# Altium schematic symbol library CAP.SchLib: 163 symbols (part 1 of 2)
Pins are listed as number, name and electrical type; pins without a type are passive.

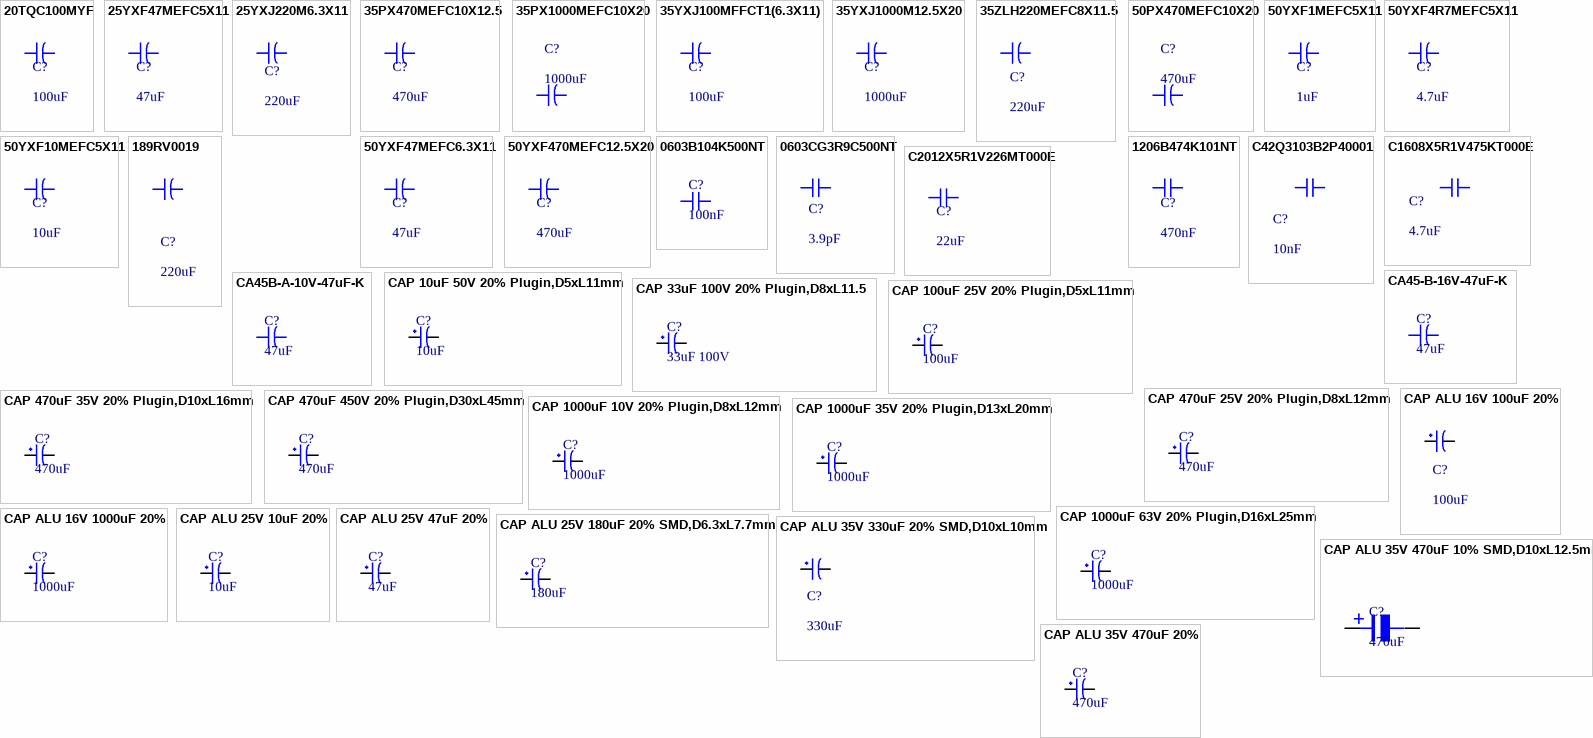
[diagram p0: symbols 20TQC100MYF to CAP ALU 35V 470uF 20%]

## 20TQC100MYF
designator C?, comment 100uF
100uF ±20% 20V Tantalum Capacitors 55mΩ@100kHz; Manufacturer: PANASONIC; Mfr.Part #: 20TQC100MYF; Package: SMD; LCSC Part #: C139578; DigiKey Part Number: P16503TR-ND; ComponentLink1Description: Link; ComponentLink1URL: https://www.lcsc.com/product-detail/C139578.html; ComponentLink2Description: Link 1; ComponentLink2URL: https://www.digikey.com/en/products/detail/panasonic-electronic-components/20TQC100MYF/4204835?s=N4IgTCBcDa4AwBUCKBhAjHOBZAmgMRAF0BfIA
footprint CAP_20TQC100MYF
pins: 1, 2

## 25YXF47MEFC5X11
designator C?, comment 47uF
47uF 25V Aluminum Electrolytic Capacitors Through Hole,D5xL11mm 5000hrs@105℃; Manufacturer: Rubycon; Mfr.Part #: 25YXF47MEFC5X11; Package: Through Hole,D5xL11mm; LCSC Part #: C88724; DigiKey Part Number: 1189-1858-ND; ComponentLink1Description: Link; ComponentLink1URL: https://www.lcsc.com/product-detail/C88724.html; ComponentLink2Description: Link 1; ComponentLink2URL: https://www.digikey.com/en/products/detail/rubycon/25YXF47MEFC5X11/3562864?s=N4IgTCBcDa4KwE0AaAxALAdgLIFEUGE4kBGYkAXQF8g
footprint PLUGIN,D5xL11mm
pins: 1, 2

## 25YXJ220M6.3X11
designator C?, comment 220uF
220uF 25V Aluminum Electrolytic Capacitors Through Hole,D6.3xL11mm 7000hrs@105℃; Manufacturer: Rubycon; Mfr.Part #: 25YXJ220M6.3X11; Package: Through Hole,D6.3xL11mm; LCSC Part #: C88729; DigiKey Part Number: 1189-2913-ND; ComponentLink1Description: Link; ComponentLink1URL: https://www.lcsc.com/product-detail/C88729.html; ComponentLink2Description: Link 1; ComponentLink2URL: https://www.digikey.com/en/products/detail/rubycon/25YXJ220M6-3X11/3563124?s=N4IgTCBcDa4KwE0AaApMYAMBZAbAOgGYkBGYkAXQF8g
footprint PLUGIN,D6.3xL12mm
pins: 1, 2

## 35PX470MEFC10X12.5
designator C?, comment 470uF
470uF 35V Aluminum Electrolytic Capacitors Through Hole,D10xL12.5mm 2000hrs@105℃; Manufacturer: Rubycon; Mfr.Part #: 35PX470MEFC10X12.5; Package: Through Hole,D10xL12.5mm; LCSC Part #: C127917; DigiKey Part Number: 1189-1280-ND; ComponentLink1Description: Link; ComponentLink1URL: https://www.lcsc.com/product-detail/C127917.html; ComponentLink2Description: Link 1; ComponentLink2URL: https://www.digikey.com/en/products/detail/rubycon/35PX470MEFC10X12-5/3134236?s=N4IgTCBcDaIMwFYAKANALAdgAwFkCiAYgMICMWKJYAdAiALoC%2BQA
footprint Plugin,D10xL12.5mm
pins: 1, 2

## 35PX1000MEFC10X20
designator C?, comment 1000uF
1000uF 35V Aluminum Electrolytic Capacitors Through Hole,D10xL20mm 2000hrs@105℃; Manufacturer: Rubycon; Mfr.Part #: 35PX1000MEFC10X20; So_Chan_Cam: 2; LCSC Part #: C136014; Package: Through Hole,D10xL20mm; DigiKey Part Number: 1189-1745-ND; ComponentLink1Description: Link; ComponentLink1URL: https://www.lcsc.com/product-detail/C136014.html?s_z=n_35PX1000MEFC10X20; ComponentLink2Description: Link 1; ComponentLink2URL: https://www.digikey.com/en/products/detail/rubycon/35PX1000MEFC10X20/3563769?s=N4IgTCBcDaIMwFYAKANAjABiwWQKIDEBhTFMDEAXQF8g
footprint Plugin,D10xL20mm
pins: 1, 2

## 35YXJ100MFFCT1(6.3X11)
designator C?, comment 100uF
100uF 35V Aluminum Electrolytic Capacitors Through Hole,D6.3xL11mm 7000hrs@105℃; Manufacturer: Rubycon; Mfr.Part #: 35YXJ100MFFCT1(6.3X11); Package: Through Hole,D6.3xL11mm; LCSC Part #: C3035369; DigiKey Part Number: NO; ComponentLink1Description: Link; ComponentLink1URL: https://www.lcsc.com/product-detail/C3035369.html?spm=wm.fly.bg.25.xh&lcsc_vid=FAdbA1BQFQNeV1UEFlgLA1FWRVFXUVBeEwJXVAFQRVUxVlNRQ1NbVF1fQ1ReUzsOAxUeFF5JWBYZEEoKFBINSQcJGk4dAgUUFAk%3D; ComponentLink2Description: Link 1
footprint PLUGIN,D6.3xL11mm
footprint PLUGIN,D6.3xL11mm-SIDE
pins: 1, 2

## 35YXJ1000M12.5X20
designator C?, comment 1000uF
1000uF 35V Aluminum Electrolytic Capacitors Through Hole,D12.5xL20mm 10000hrs@105℃; Manufacturer: Rubycon; Mfr.Part #: 35YXJ1000M12.5X20; Package: Through Hole,D12.5xL20mm; LCSC Part #: C88743; DigiKey Part Number: 1189-1295-ND; ComponentLink1Description: Link; ComponentLink1URL: https://www.lcsc.com/product-detail/C88743.html?s_z=n_35YXJ1000M12.5X20; ComponentLink2Description: Link 1; ComponentLink2URL: https://www.digikey.com/en/products/detail/rubycon/35YXJ1000M12-5X20/3134251?s=N4IgTCBcDaIMwFYCaANAUgRgAw4LIbADoEUwsQBdAXyA
footprint Plugin,D12.5xL20mm
pins: 1, 2

## 35ZLH220MEFC8X11.5
designator C?, comment 220uF
220uF 35V Aluminum Electrolytic Capacitors Through Hole,D8xL11.5mm 8000hrs@105℃; Manufacturer: Rubycon; Mfr.Part #: 35ZLH220MEFC8X11.5; LCSC Part #: C107639; Package: Through Hole,D8xL11.5mm; DigiKey Part Number: 1189-1863-ND; ComponentLink1Description: Link; ComponentLink1URL: https://www.lcsc.com/product-detail/C107639.html?s_z=n_35ZLH220MEFC8X11.5; ComponentLink2Description: Link 1; ComponentLink2URL: https://www.digikey.com/en/products/detail/rubycon/35ZLH220MEFC8X11-5/3563385?s=N4IgTCBcDaIMwFYBaAZAEmMAGAsgUQDEBhADgA0BGCgOgRAF0BfIA
footprint Plugin,D8xL11.5mm
pins: 1, 2

## 50PX470MEFC10X20
designator C?, comment 470uF
470uF 50V Aluminum Electrolytic Capacitors Through Hole,D10xL20mm 2000hrs@105℃; Manufacturer: Rubycon; Mfr.Part #: 50PX470MEFC10X20; LCSC Part #: C88733; Package: Through Hole,D10xL20mm; DigiKey Part Number: 1189-4213-ND; ComponentLink1Description: Link; ComponentLink1URL: https://www.lcsc.com/product-detail/C88733.html; ComponentLink2Description: Link 1; ComponentLink2URL: https://www.digikey.com/en/products/detail/rubycon/50PX470MEFC10X20/3563766?s=N4IgTCBcDaIKwAYAKANALAdgQWQKIDEBhARgRTARAF0BfIA
footprint Plugin,D10xL20mm
pins: 1, 2

## 50YXF1MEFC5X11
designator C?, comment 1uF
1uF 50V Aluminum Electrolytic Capacitors Through Hole,D5xL11mm; Manufacturer: Rubycon; Mfr.Part #: 50YXF1MEFC5X11; Package: Through Hole,D5xL11mm; LCSC Part #: C2927584; DigiKey Part Number: 1189-1878-ND; ComponentLink1Description: Link; ComponentLink1URL: https://www.lcsc.com/product-detail/C2927584.html; ComponentLink2Description: Link 1; ComponentLink2URL: https://www.digikey.com/en/products/detail/rubycon/50YXF1MEFC5X11/3562875?s=N4IgTCBcDaIKwAYCaANAYgRgLIFE0GE4UMMQBdAXyA
footprint PLUGIN,D5xL11mm
pins: 1, 2

## 50YXF4R7MEFC5X11
designator C?, comment 4.7uF
4.7uF 50V Aluminum Electrolytic Capacitors Through Hole,D5xL11mm 5000hrs@105℃; Manufacturer: Rubycon; Mfr.Part #: 50YXF4R7MEFC5X11; Package: Through Hole,D5xL11mm; LCSC Part #: C88759; DigiKey Part Number: 1189-1862-ND; ComponentLink1Description: Link; ComponentLink1URL: https://www.lcsc.com/product-detail/C88759.html; ComponentLink2Description: Link 1; ComponentLink2URL: https://www.digikey.com/en/products/detail/rubycon/50YXF4-7MEFC5X11/3562866?s=N4IgTCBcDaIKwAYCaANAYgFgEoHYCyAomgMJwoCM5IAugL5A
footprint PLUGIN,D5xL11mm
pins: 1, 2

## 50YXF10MEFC5X11
designator C?, comment 10uF
10uF 50V Aluminum Electrolytic Capacitors Through Hole,D5xL11mm 5000hrs@105℃; Manufacturer: Rubycon; Mfr.Part #: 50YXF10MEFC5X11; Package: Through Hole,D5xL11mm; LCSC Part #: C88726; DigiKey Part Number: 1189-1852-ND; ComponentLink1Description: Link; ComponentLink1URL: https://www.lcsc.com/product-detail/C88726.html; ComponentLink2Description: Link 1; ComponentLink2URL: http://digikey.com/en/products/detail/rubycon/50YXF10MEFC5X11/3562878?s=N4IgTCBcDaIKwAYCaANAYgRgQWQKJoGE4UMMQBdAXyA
footprint PLUGIN,D5xL11mm
pins: 1, 2

## 50YXF47MEFC6.3X11
designator C?, comment 47uF
47uF 50V Aluminum Electrolytic Capacitors Through Hole,D6.3xL11mm 5000hrs@105℃; Manufacturer: Rubycon; Mfr.Part #: 50YXF47MEFC6.3X11; Package: Through Hole,D6.3xL11mm; LCSC Part #: C107641; DigiKey Part Number: 1189-1854-ND; ComponentLink1Description: Link; ComponentLink1URL: https://www.lcsc.com/product-detail/C107641.html; ComponentLink2Description: Link 1; ComponentLink2URL: https://www.digikey.com/en/products/detail/rubycon/50YXF47MEFC6-3X11/3563091?s=N4IgTCBcDaIKwAYCaANAYgFgOwFkCiaAwgGwB0AzCgIxUgC6AvkA
footprint PLUGIN,D6.3xL11mm-SIDE
footprint PLUGIN,D6.3xL11mm-SIDE
pins: 1, 2

## 50YXF470MEFC12.5X20
designator C?, comment 470uF
470uF 50V Aluminum Electrolytic Capacitors Through Hole,D12.5xL20mm 10000hrs@105℃; Manufacturer: Rubycon; Mfr.Part #: 50YXF470MEFC12.5X20; Package: Through Hole,D12.5xL20mm; LCSC Part #: C88856; DigiKey Part Number: 1189-50YXF470MEFC12.5X20-ND; ComponentLink1Description: Link; ComponentLink1URL: https://www.lcsc.com/product-detail/C88856.html; ComponentLink2Description: Link 1; ComponentLink2URL: https://www.digikey.com/en/products/detail/rubycon/50YXF470MEFC12-5X20/3564022?s=N4IgTCBcDaIKwAYCaANAYgFgOwILIFE0BhARjADo4UwEQBdAXyA
footprint Plugin,D12.5xL20mm
pins: 1, 2

## 189RV0019
designator C?, comment 220uF
220uF 35V 600mA@100KHz 160mΩ@100KHz ±20% SMD,D6.3xL7.7mm Aluminum Electrolytic Capacitors - SMD ROHS; Manufacturer: KNSCHA; Mfr.Part #: 189RV0019; Package: SMD,D6.3xL7.7mm; LCSC Part #: C7471881
footprint SMD,D6.3xL7.7mm
pins: 1, 2

## 0603B104K500NT
designator C?, comment 100nF
100nF ±10% 50V Ceramic Capacitor X7R 0603; Manufacturer: FH; Mfr.Part #: 0603B104K500NT; Package: 0603; LCSC Part #: C30926; DigiKey Part Number: NO; ComponentLink1Description: Link; ComponentLink1URL: https://www.lcsc.com/product-detail/C30926.html?s_z=n_0603B114K500NT; ComponentLink2Description: Link 1
footprint CAP-0603
pins: 1, 2

## 0603CG3R9C500NT
designator C?, comment 3.9pF
3.9pF 50V Ceramic Capacitor C0G 0603; Manufacturer: FH; Mfr.Part #: 0603CG3R9C500NT; Package: 0603; LCSC Part #: C1662; DigiKey Part Number: NO; ComponentLink1Description: Link; ComponentLink1URL: https://www.lcsc.com/product-detail/C1662.html?spm=wm.fly.bg.1.xh&lcsc_vid=QwdcUVxUFAdbVwUFRQBWBVECTlNYX1QAQFddU1EFQ1kxVlNRQ1NeVF1TQVhaVTsOAxUeFF5JWBYZEEoKFBINSQcJGk4dAgUUFAk%3D; ComponentLink2Description: Link 1
footprint CAP-0603
pins: 1, 2

## 1206B474K101NT
designator C?, comment 470nF
470nF ±10% 100V Ceramic Capacitor X7R 1206; Manufacturer: FH; Mfr.Part #: 1206B474K101NT; Package: 1206; LCSC Part #: C507059; DigiKey Part Number: NO; ComponentLink1Description: Link; ComponentLink1URL: https://www.lcsc.com/product-detail/C507059.html; ComponentLink2Description: Link 1
footprint CAP-1206 - 1
pins: 1, 2

## C42Q3103B2P40001
designator C?, comment 10nF
10nF ±10% 275V 310V Safety Capacitor X2 Through Hole,P=10mm; Manufacturer: WALSON; Mfr.Part #: CC0603JRX7R9BB103; Package: Through Hole,P=10mm; LCSC Part #: C46638843; DigiKey Part Number: NO; ComponentLink1Description: Link; ComponentLink1URL: https://www.lcsc.com/product-detail/C46638843.html; ComponentLink2Description: Link 1
footprint Through Hole, P=10mm, L=12mm, W=6mm,  H=12mm
pins: 1, 2

## C1608X5R1V475KT000E
designator C?, comment 4.7uF
4.7uF ±10% 35V Ceramic Capacitor X5R 0603; Manufacturer: TDK; Mfr.Part #: C1608X5R1V475KT000E; Package: 0603; LCSC Part #: C329940; DigiKey Part Number: 445-9064-2-ND; ComponentLink1Description: Link; ComponentLink1URL: https://www.lcsc.com/product-detail/C329940.html?s_z=n_c329940; ComponentLink2Description: Link 1; ComponentLink2URL: https://www.digikey.com/en/products/detail/tdk-corporation/C1608X5R1V475K080AC/3648577?s=N4IgTCBcDaIMIEYBsAGAHADQKwCUEDUAWAdiwGkAVFagURAF0BfIA
footprint CAP-0603
pins: 1, 2

## C2012X5R1V226MT000E
designator C?, comment 22uF
22uF ±20% 35V Ceramic Capacitor X5R 0805; Manufacturer: TDK; Mfr.Part #: C2012X5R1V226MT000E; Package: 0805; LCSC Part #: C338080; DigiKey Part Number: 445-14428-2-ND; ComponentLink1Description: Link; ComponentLink1URL: https://www.lcsc.com/product-detail/C338080.html?spm=wm.fly.bg.0.xh&lcsc_vid=FAdbA1BQFQNeV1UEFlgLA1FWRVFXUVBeEwJXVAFQRVUxVlNRQ1NbU11QRVRcVTsOAxUeFF5JWBYZEEoKFBINSQcJGk4dAgUUFAk%3D; ComponentLink2Description: Link 1; ComponentLink2URL: https://www.digikey.com/en/products/detail/tdk/C2012X5R1V226M125AC/3951664?s=N4IgTCBcDaIMJgAwEYwA0CsAlZA1MYAbALIAqiFAoiALoC%2BQA
footprint CAP-0805
footprint CAP-0805-1
pins: 1, 2

## CA45-B-16V-47uF-K
designator C?, comment 47uF
47uF 16V 3Ω@100kHz ±10% CASE-B-3528-19(mm) Tantalum Capacitors ROHS; Manufacturer: CEC(Zhenhua XinYun); Mfr.Part #: CA45-B-16V-47uF-K; Package: CASE-B-3528-19(mm); LCSC Part #: C136751
footprint CASE-B-3528-19(mm)
pins: 1, 2

## CA45B-A-10V-47uF-K
designator C?, comment 47uF
47uF 10V ±10% CASE-A-3216-16(mm) Tantalum Capacitors ROHS; Manufacturer: CEC(Zhenhua XinYun); Mfr.Part #: CA45B-A-10V-47uF-K; Package: CASE-A-3216-16(mm); LCSC Part #: C41415735; DigiKey Part Number: NO
footprint CASE-A-3216-18(mm)
pins: 1, 2

## CAP 10uF 50V 20% Plugin,D5xL11mm
designator C?, comment 10uF
10uF 50V ±20% Plugin,D5xL11mm Aluminum Electrolytic Capacitors - Leaded ROHS; Manufacturer: AISHI(Aihua Group); Mfr.Part #: ERS1HM100D11OT; Name: CAP 10uF 50V 20% Plugin,D5xL11mm; So_Chan_Cam: 2; So_Chan_Dan: 0; Package: Plugin,D5xL11mm
footprint PLUGIN,D5xL11mm
pins: 1, 2

## CAP 33uF 100V 20% Plugin,D8xL11.5
designator C?, comment 33uF 100V
33uF 100V ±20% 140mA@120Hz Plugin,D8xL11.5mm Aluminum Electrolytic Capacitors - Leaded ROHS; Manufacturer: Rubycon; Mfr.Part #: 100PX33MEFC8X11.5; Name: CAP 33uF 100V 20% Plugin,D8xL11.5; So_Chan_Dan: 0; So_Chan_Cam: 2; Package: Plugin,D8xL11.5mm
footprint Plugin,D8xL11.5mm
pins: 1, 2

## CAP 100uF 25V 20% Plugin,D5xL11mm
designator C?, comment 100uF
100uF 25V ±20% Plugin,D5xL11mm Aluminum Electrolytic Capacitors - Leaded ROHS; Manufacturer: Rubycon; Mfr.Part #: 25YXJ100MT15X11; Name: CAP 100uF 25V 20% Plugin,D5xL11mm; So_Chan_Cam: 2; So_Chan_Dan: 0; Package: Plugin,D5xL11mm
footprint PLUGIN,D5xL11mm
pins: 1, 2

## CAP 470uF 25V 20% Plugin,D8xL12mm
designator C?, comment 470uF
470uF 25V ±20% Plugin,D8xL12mm Aluminum Electrolytic Capacitors - Leaded ROHS; Manufacturer: CX(Dongguan Chengxing Elec); Mfr.Part #: KM477M025F12RR0VH2FP0; Name: CAP 470uF 25V 20% Plugin,D8xL12mm; So_Chan_Dan: 0; So_Chan_Cam: 2; Package: Plugin,D8xL12mm
footprint Plugin,D8xL12mm
pins: 1, 2

## CAP 470uF 35V 20% Plugin,D10xL16mm
designator C?, comment 470uF
470uF 35V ±20% Plugin,D10xL16mm Aluminum Electrolytic Capacitors - Leaded ROHS; Manufacturer: Rubycon; Mfr.Part #: 35YXJ470M10x16; Name: CAP 470uF 35V 20% Plugin,D10xL16mm; So_Chan_Dan: 0; So_Chan_Cam: 2; Package: Plugin,D10xL16mm
footprint Plugin,D10xL16mm
pins: 1, 2

## CAP 470uF 450V 20% Plugin,D30xL45mm
designator C?, comment 470uF
470uF 450V 2.05A@120Hz ±20% 10mm Plugin,D30xL45mm Horn-Type Electrolytic Capacitors ROHS; Manufacturer: Rubycon; Mfr.Part #: 450MXH470MEFCSN30X45; Name: CAP 470uF 450V 20% Plugin,D30xL45mm; So_Chan_Dan: 0; So_Chan_Cam: 2; Package: Plugin,D30xL45mm
footprint Plugin,D30xL45mm
pins: 1, 2

## CAP 1000uF 10V 20% Plugin,D8xL12mm
designator C?, comment 1000uF
1000uF 10V ±20% 600mA@10kHz Plugin,D8xL12mm Aluminum Electrolytic Capacitors - Leaded ROHS; Manufacturer: Rubycon; Mfr.Part #: 10PX1000MEFC8X11.5; Name: CAP 1000uF 10V 20% Plugin,D8xL12mm; So_Chan_Dan: 0; So_Chan_Cam: 2; Package: Plugin,D8xL12mm
footprint Plugin,D8xL12mm
footprint Plugin,D8xL12mm-SIDE
pins: 1, 2

## CAP 1000uF 35V 20% Plugin,D13xL20mm
designator C?, comment 1000uF
1000uF 35V ±20% Plugin,D13xL20mm Aluminum Electrolytic Capacitors - Leaded ROHS; Manufacturer: CX(Dongguan Chengxing Elec); Mfr.Part #: KM108M035J20RR0VH2FP0; Name: CAP 1000uF 35V 20% Plugin,D13xL20mm; So_Chan_Dan: 0; So_Chan_Cam: 2; Package: Plugin,D13xL20mm
footprint Plugin,D13xL20mm
footprint Plugin,D13xL20mm-SIDE
pins: 1, 2

## CAP 1000uF 63V 20% Plugin,D16xL25mm
designator C?, comment 1000uF
1000uF 63V ±20% Plugin,D16xL25mm Aluminum Electrolytic Capacitors - Leaded ROHS; Manufacturer: Rubycon; Mfr.Part #: 63YXJ1000M16X25; Name: CAP 1000uF 63V 20% Plugin,D16xL25mm; So_Chan_Dan: 0; So_Chan_Cam: 2; Package: Plugin,D16xL25mm
footprint PLUGIN,D16xL25mm
pins: 1, 2

## CAP ALU 16V 100uF 20%
designator C?, comment 100uF
100uF 16V 125mA@120Hz ±20% SMD,D6.3xL6.1mm Aluminum Electrolytic Capacitors - SMD ROHS; Manufacturer: Rubycon; Mfr.Part #: 16TZV100M6.3X6.1; Name: CAP ALU 16V 100uF 20%; So_Chan_Dan: 2; So_Chan_Cam: 0; Package: SMD,D6.3xL6.1mm
footprint SMD,D6.3xL6.1mm
pins: 1, 2

## CAP ALU 16V 1000uF 20%
designator C?, comment 1000uF
1000uF 16V 300mA@120kHz ±20% SMD,D10xL10.5mm Aluminum Electrolytic Capacitors - SMD ROHS; Manufacturer: KNSCHA; Mfr.Part #: XT1000UF16V90RV0100; Name: CAP ALU 16V 1000uF 20%; So_Chan_Dan: 2; So_Chan_Cam: 0; Package: SMD,D10xL10.5mm
footprint SMD,D10xL10.5mm
pins: 1, 2

## CAP ALU 25V 10uF 20%
designator C?, comment 10uF
10uF 25V 25mA@120Hz ±20% SMD,D4xL5.5mm Aluminum Electrolytic Capacitors - SMD ROHS; Manufacturer: Rubycon; Mfr.Part #: 25SEV10M4X5.5; Name: CAP ALU 25V 10uF 20%; So_Chan_Dan: 2; So_Chan_Cam: 0; Package: SMD,D4xL5.5mm
footprint SMD,D4xL5.5mm
pins: 1, 2

## CAP ALU 25V 47uF 20%
designator C?, comment 47uF
47uF 25V 60mA@120Hz ±20% SMD,D6.3xL5.5mm Aluminum Electrolytic Capacitors - SMD ROHS; Manufacturer: Rubycon; Mfr.Part #: 25SEV47M6.3X5.5; Name: CAP ALU 25V 10uF 20%; So_Chan_Dan: 2; So_Chan_Cam: 0; Package: SMD,D6.3xL5.5mm
footprint SMD,D6.3xL5.5mm
pins: 1, 2

## CAP ALU 25V 180uF 20% SMD,D6.3xL7.7mm
designator C?, comment 180uF
180uF 25V 280mA@100kHz 340mΩ@100kHz ±20% SMD,D6.3xL7.7mm Aluminum Electrolytic Capacitors - SMD ROHS; Manufacturer: PANASONIC; Mfr.Part #: EEEFKE181XSP; Name: CAP ALU 25V 180uF 20% SMD,D6.3xL7.7mm; So_Chan_Dan: 0; So_Chan_Cam: 2; Package: SMD,D6.3xL7.7mm
footprint SMD,D6.3xL7.7mm
pins: 1, 2

## CAP ALU 35V 330uF 20% SMD,D10xL10mm
designator C?, comment 330uF
330uF 35V ±20% SMD,D10xL10mm Aluminum Electrolytic Capacitors - SMD ROHS; Manufacturer: Lelon; Mfr.Part #: VZH331M1VTR-1010; Name: CAP ALU 35V 330uF 20% SMD,D10xL10mm; So_Chan_Dan: 2; So_Chan_Cam: 0; Package: SMD,D10xL10mm; Tolerance: 20%
footprint SMD,D10xL10.5mm
pins: 1, 2

## CAP ALU 35V 470uF 10% SMD,D10xL12.5mm
designator C?, comment 470uF
470uF 35V ±10% SMD,D10xL12.5mm Aluminum Electrolytic Capacitors - SMD ROHS; Manufacturer: Lelon; Mfr.Part #: VEJ471K1VTR-1012; Name: CAP ALU 35V 470uF 10% SMD,D10xL12.5mm; So_Chan_Dan: 2; So_Chan_Cam: 0; Package: SMD,D10xL12.5mm; Tolerance: 10%
footprint SMD,D10xL12.5mm
pins: 1, 2
text: +

## CAP ALU 35V 470uF 20%
designator C?, comment 470uF
470uF 35V 310mA@120Hz ±20% SMD,D10xL10.5mm Aluminum Electrolytic Capacitors - SMD ROHS; Manufacturer: KNSCHA; Mfr.Part #: XT470UF35V90RV0080; Name: CAP ALU 35V 470uF 20%; So_Chan_Dan: 2; So_Chan_Cam: 0; Package: SMD,D10xL10.5mm
footprint SMD,D10xL10.5mm
pins: 1, 2

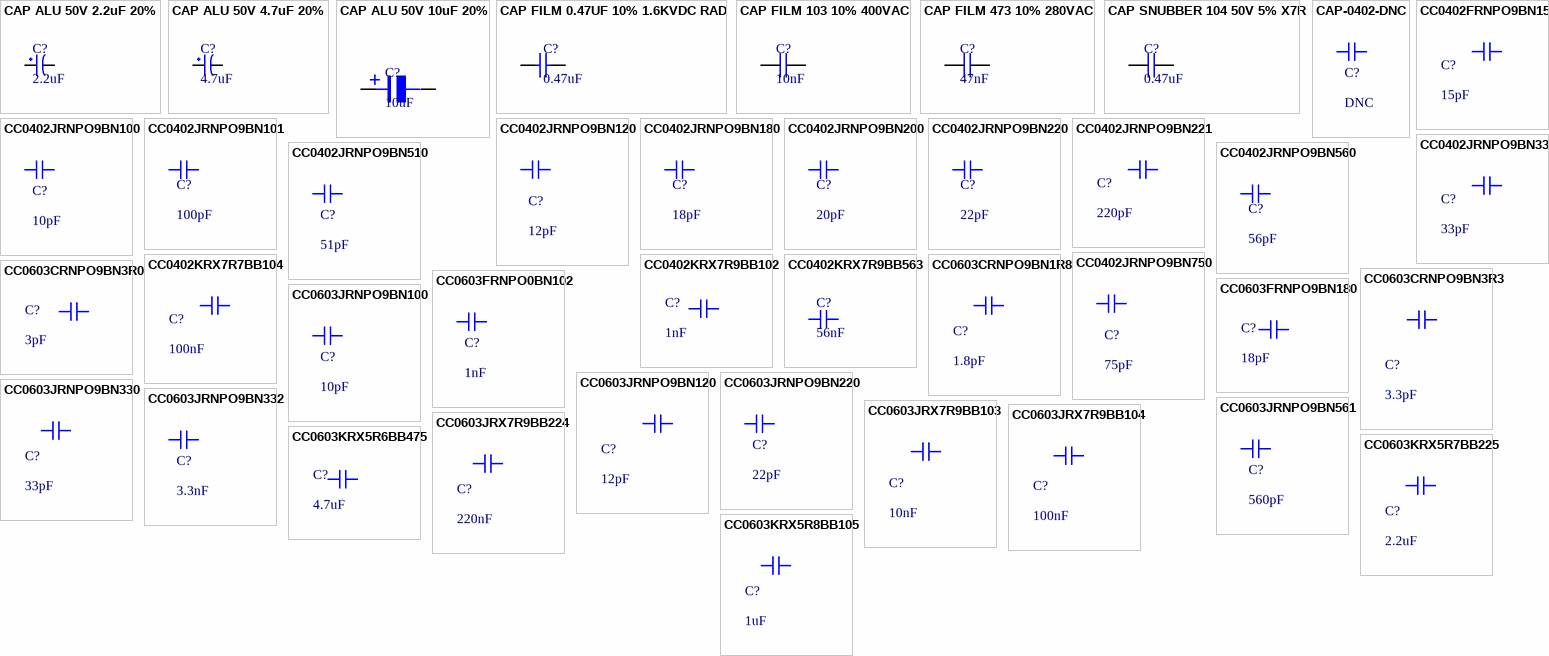
[diagram p1: symbols CAP ALU 50V 2.2uF 20% to CC0603KRX5R8BB105]

## CAP ALU 50V 2.2uF 20%
designator C?, comment 2.2uF
2.2uF 50V 11mA@120Hz ±20% SMD,D4xL6.1mm Aluminum Electrolytic Capacitors - SMD ROHS; Manufacturer: Rubycon; Mfr.Part #: 50SGV2R2M4X6.1; Name: CAP ALU 50V 2.2uF 20%; So_Chan_Dan: 2; So_Chan_Cam: 0; Package: SMD,D4xL6.1mm
footprint SMD,D4xL6.1mm
pins: 1, 2

## CAP ALU 50V 4.7uF 20%
designator C?, comment 4.7uF
4.7uF 50V 18mA@120Hz ±20% SMD,D4xL5.5mm Aluminum Electrolytic Capacitors - SMD ROHS; Manufacturer: Rubycon; Mfr.Part #: 50SEV4R7M4X5.5; Name: CAP ALU 50V 4.7uF 20%; So_Chan_Dan: 2; So_Chan_Cam: 0; Package: SMD,D4xL5.5mm
footprint SMD,D4xL5.5mm
footprint Plugin,D20xL35mm
pins: 1, 2

## CAP ALU 50V 10uF 20%
designator C?, comment 10uF
10uF 50V 30mA@120Hz ±20% SMD,D5xL5.5mm Aluminum Electrolytic Capacitors - SMD ROHS; Manufacturer: Rubycon; Mfr.Part #: 50SEV10M5X5.5; Name: CAP ALU 50V 10uF 20%; So_Chan_Dan: 2; So_Chan_Cam: 0; Package: SMD,D5xL5.5mm
footprint SMD,D5xL5.5mm
pins: 1, 2
text: +

## CAP FILM 0.47UF 10% 1.6KVDC RAD
designator C?, comment 0.47uF
0.47 µF Film Capacitor 650V 1600V (1.6kV) Polypropylene (PP), Metallized Radial; Manufacturer: WIMA; Mfr.Part #: MKP1T034707F00KSSD; Name: CAP FILM 0.47UF 10% 1.6KVDC RAD; So_Chan_Dan: 0; So_Chan_Cam: 2; Package: Plugin,L41.5xW19xH32mm
footprint Plugin,L41.5xW19xH32mm
pins: 1, 2

## CAP FILM 103 10% 400VAC
designator C?, comment 10nF
10000 pF Film Capacitor 400V 1000V (1kV) Polypropylene (PP), Metallized Radial; Manufacturer: WIMA; Mfr.Part #: MKP4O121003F00KSSD; So_Chan_Dan: 2; Name: CAP FILM 103 10% 400VAC; So_Chan_Cam: 0; Tolarance: 10%; Package: Plugin
footprint MKP4O121003F00
pins: 1, 2

## CAP FILM 473 10% 280VAC
designator C?, comment 47nF
0.047 µF Film Capacitor 280V 630V Polypropylene (PP), Metallized Radial; Manufacturer: WIMA; Mfr.Part #: MKP4J024702F00KSSD; So_Chan_Dan: 2; Name: CAP FILM 473 10% 280VAC; So_Chan_Cam: 0; Tolarance: 10%; Package: Plugin
footprint MKP4O121003F00
pins: 1, 2

## CAP SNUBBER 104 50V 5% X7R
designator C?, comment 0.47uF
50V 100nF X7R ±5% 0603 Multilayer Ceramic Capacitors MLCC - SMD/SMT ROHS; Manufacturer: YAGEO; Mfr.Part #: CC0603JRX7R9BB104; So_Chan_Dan: 2; Name: CAP 0603 104 50V 5% X7R; So_Chan_Cam: 0; Package: 0603; Volt Rated: 50V; Temperature Coefficient: X7R; Tolarance: 5%
footprint PLUGIN,W33xL56mm (FKP1 0.47uF 1.6kV)
pins: 1, 2

## CAP-0402-DNC
designator C?, comment DNC
Do not connect; Manufacturer: NO; Package: 0402; LCSC Part #: NO; Mfr.Part #: NO; DigiKey Part Number: NO
footprint CAP-0402
pins: 1, 2

## CC0402FRNPO9BN150
designator C?, comment 15pF
50V 15pF NP0 ±1% 0402 Ceramic Capacitors RoHS; Manufacturer: YAGEO; Mfr.Part #: CC0402FRNPO9BN150; Package: 0402; LCSC Part #: C326803; DigiKey Part Number: 311-1642-2-ND
footprint CAP-0402
pins: 1, 2

## CC0402JRNPO9BN100
designator C?, comment 10pF
10pF ±5% 50V Ceramic Capacitor NP0 0402; Manufacturer: YAGEO; Mfr.Part #: CC0402JRNPO9BN100; Package: 0402; LCSC Part #: C106199; DigiKey Part Number: 311-1014-2-ND; ComponentLink1Description: Link; ComponentLink1URL: https://www.lcsc.com/product-detail/C106199.html?s_z=n_10PF; ComponentLink2Description: Link 1; ComponentLink2URL: https://www.digikey.com/en/products/detail/yageo/CC0402JRNPO9BN100/302748?s=N4IgTCBcDaIMJwAwBZFgFICUByAFA8gJwBC2AjIoiALoC%2BQA
footprint CAP-0603
pins: 1, 2

## CC0402JRNPO9BN101
designator C?, comment 100pF
50V 100pF NP0 ±5% 0402 Ceramic Capacitors ROHS; Manufacturer: YAGEO; Mfr.Part #: CC0402JRNPO9BN101; Package: 0402; LCSC Part #: C106200
footprint CAP-0402
pins: 1, 2

## CC0402JRNPO9BN120
designator C?, comment 12pF
50V 12pF NP0 ±5% 0402 Multilayer Ceramic Capacitors MLCC - SMD/SMT ROHS; Manufacturer: YAGEO; Mfr.Part #: CC0402JRNPO9BN120; Package: 0402; LCSC Part #: C106201
footprint CAP-0402
pins: 1, 2

## CC0402JRNPO9BN180
designator C?, comment 18pF
50V 18pF NP0 ±5% 0402 Ceramic Capacitors RoHS; Manufacturer: YAGEO; Mfr.Part #: CC0402JRNPO9BN180; Package: 0402; LCSC Part #: C106202; DigiKey Part Number: 311-1415-2-ND
footprint CAP-0402
pins: 1, 2

## CC0402JRNPO9BN200
designator C?, comment 20pF
20pF ±5% 50V Ceramic Capacitor NP0 0402; Manufacturer: YAGEO; Mfr.Part #: CC0402JRNPO9BN200; Package: 0402; LCSC Part #: C107000; DigiKey Part Number: 311-1417-2-ND; ComponentLink1Description: Link; ComponentLink1URL: https://www.lcsc.com/product-detail/C107000.html?s_z=n_CC0402JRNPO9BN200; ComponentLink2Description: Link 1; ComponentLink2URL: https://www.digikey.com/en/products/detail/yageo/CC0402JRNPO9BN200/2833582?s=N4IgTCBcDaIMJwAwBZFgFICUByAFA8gJwBC2YiiIAugL5A
footprint CAP-0402
pins: 1, 2

## CC0402JRNPO9BN220
designator C?, comment 22pF
50V 22pF NP0 ±5% 0402 Ceramic Capacitors RoHS; Manufacturer: YAGEO; Mfr.Part #: CC0402JRNPO9BN220; Package: 0402; LCSC Part #: C106203; DigiKey Part Number: 311-1018-2-ND
footprint CAP-0402
pins: 1, 2

## CC0402JRNPO9BN221
designator C?, comment 220pF
220pF ±5% 50V Ceramic Capacitor NP0 0402; Manufacturer: YAGEO; Mfr.Part #: CC0402JRNPO9BN221; Package: 0402; LCSC Part #: C107001; DigiKey Part Number: 311-1416-2-ND; ComponentLink1Description: Link; ComponentLink1URL: https://www.lcsc.com/product-detail/C107001.html?s_z=n_220PF; ComponentLink2Description: Link 1; ComponentLink2URL: https://www.digikey.com/en/products/detail/yageo/CC0402JRNPO9BN221/2833581?s=N4IgTCBcDaIMJwAwBZFgFICUByAFA8gJwBC2YYAjCALoC%2BQA
footprint CAP-0402
pins: 1, 2

## CC0402JRNPO9BN330
designator C?, comment 33pF
33pF ±5% 50V Ceramic Capacitor NP0 0402; Manufacturer: YAGEO; Mfr.Part #: CC0402JRNPO9BN330; Package: 0402; LCSC Part #: C107005; DigiKey Part Number: 311-1020-2-ND; ComponentLink1Description: Link; ComponentLink1URL: https://www.lcsc.com/product-detail/C107005.html?s_z=n_33PF; ComponentLink2Description: Link 1; ComponentLink2URL: https://www.digikey.com/en/products/detail/yageo/CC0402JRNPO9BN330/302754?s=N4IgTCBcDaIMJwAwBZFgFICUByAFA8gJwBC2AzGYiALoC%2BQA
footprint CAP-0402
pins: 1, 2

## CC0402JRNPO9BN510
designator C?, comment 51pF
51pF ±5% 50V Ceramic Capacitor NP0 0402; Manufacturer: YAGEO; Mfr.Part #: CC0402JRNPO9BN510; Package: 0402; LCSC Part #: C281759; DigiKey Part Number: 311-1672-2-ND; ComponentLink1Description: Link; ComponentLink1URL: https://www.lcsc.com/product-detail/C281759.html?s_z=n_51PF; ComponentLink2Description: Link 1; ComponentLink2URL: https://www.digikey.com/en/products/detail/yageo/CC0402JRNPO9BN510/5195081?s=N4IgTCBcDaIMJwAwBZFgFICUByAFA8gJwBC2ArAIyIgC6AvkA
footprint CAP-0603
pins: 1, 2

## CC0402JRNPO9BN560
designator C?, comment 56pF
50V 56pF NP0 ±5% 0402 Ceramic Capacitors RoHS; Manufacturer: YAGEO; Mfr.Part #: CC0402JRNPO9BN560; Package: 0402; LCSC Part #: C107007; DigiKey Part Number: 311-1022-2-ND
footprint CAP-0402
pins: 1, 2

## CC0402JRNPO9BN750
designator C?, comment 75pF
50V 75pF NP0 ±5% 0402 Ceramic Capacitors ROHS; Manufacturer: YAGEO; Mfr.Part #: CC0402JRNPO9BN750; Package: 0402; LCSC Part #: C107010
footprint CAP-0402
pins: 1, 2

## CC0402KRX7R7BB104
designator C?, comment 100nF
16V 100nF X7R ±10% 0402 Multilayer Ceramic Capacitors MLCC - SMD/SMT ROHS; Manufacturer: YAGEO; Mfr.Part #: CC0402KRX7R7BB104; Package: 0402; LCSC Part #: C60474; DigiKey Part Number: 311-1338-2-ND
footprint CAP-0402
pins: 1, 2

## CC0402KRX7R9BB102
designator C?, comment 1nF
50V 1nF X7R ±10% 0402 Ceramic Capacitors ROHS; Manufacturer: YAGEO; Mfr.Part #: CC0402KRX7R9BB102; Package: 0402; LCSC Part #: C106205
footprint CAP-0402
pins: 1, 2

## CC0402KRX7R9BB563
designator C?, comment 56nF
50V 56nF X7R ±10% 0402 Multilayer Ceramic Capacitors MLCC - SMD/SMT ROHS; Manufacturer: YAGEO; Mfr.Part #: CC0402KRX7R9BB563; Package: 0402; LCSC Part #: C5182419
footprint CAP-0402
pins: 1, 2

## CC0603CRNPO9BN1R8
designator C?, comment 1.8pF
1.8pF 50V Ceramic Capacitor NP0 0603; Manufacturer: YAGEO; Mfr.Part #: CC0603CRNPO9BN1R8; Package: 0603; LCSC Part #: C282244; DigiKey Part Number: 311-3852-2-ND; ComponentLink1Description: Link; ComponentLink1URL: https://www.lcsc.com/product-detail/C282244.html?spm=wm.fly.bg.2.xh&lcsc_vid=QwdcUVxUFAdbVwUFRQBWBVECTlNYX1QAQFddU1EFQ1kxVlNRQ1NeVF1TQVhaVTsOAxUeFF5JWBYZEEoKFBINSQcJGk4dAgUUFAk%3D; ComponentLink2Description: Link 1; ComponentLink2URL: https://www.digikey.com/en/products/detail/yageo/CC0603CRNPO9BN1R8/5883448?s=N4IgTCBcDaIMJwAwDZEGY4CUByAFA8gJwBC2AjJgBwgC6AvkA
footprint CAP-0603
pins: 1, 2

## CC0603CRNPO9BN3R0
designator C?, comment 3pF
50V 3pF NP0 0603 Multilayer Ceramic Capacitors MLCC - SMD/SMT ROHS; Manufacturer: YAGEO; Mfr.Part #: CC0603JRNPO9BN120; Package: 0603
footprint CAP-0603
pins: 1, 2

## CC0603CRNPO9BN3R3
designator C?, comment 3.3pF
50V 3.3pF NP0 0603 Multilayer Ceramic Capacitors MLCC - SMD/SMT ROHS; Manufacturer: YAGEO; Mfr.Part #: CC0603CRNPO9BN3R3; Package: 0603
footprint CAP-0603
pins: 1, 2

## CC0603FRNPO0BN102
designator C?, comment 1nF
100V 1nF NP0 ±1% 0603 Multilayer Ceramic Capacitors MLCC - SMD/SMT ROHS; Manufacturer: YAGEO; Mfr.Part #: CC0603FRNPO0BN102; Package: 0603; LCSC Part #: C576765
footprint CAP-0603
pins: 1, 2

## CC0603FRNPO9BN180
designator C?, comment 18pF
50V 18pF NP0 ±1% 0603 Multilayer Ceramic Capacitors MLCC - SMD/SMT ROHS; Manufacturer: YAGEO; Mfr.Part #: CC0603FRNPO9BN180; Package: 0603; LCSC Part #: C527046
footprint CAP-0603
pins: 1, 2

## CC0603JRNPO9BN100
designator C?, comment 10pF
10pF ±5% 50V Ceramic Capacitor NP0 0603; Manufacturer: YAGEO; Mfr.Part #: CC0603JRNPO9BN100; Package: 0603; LCSC Part #: C106245; DigiKey Part Number: 311-1058-2-ND; ComponentLink1Description: Link; ComponentLink1URL: https://www.lcsc.com/product-detail/C106245.html?s_z=n_10PF; ComponentLink2Description: Link 1; ComponentLink2URL: https://www.digikey.com/en/products/detail/yageo/CC0603JRNPO9BN100/302792?s=N4IgTCBcDaIMJwAwDZEGYBSAlAcgBQHkBOAIRwEZFEQBdAXyA
footprint CAP-0603
pins: 1, 2

## CC0603JRNPO9BN120
designator C?, comment 12pF
50V 12pF NP0 ±5% 0603 Multilayer Ceramic Capacitors MLCC - SMD/SMT ROHS; Manufacturer: YAGEO; Mfr.Part #: CC0603JRNPO9BN120; Package: 0603; LCSC Part #: C107034
footprint CAP-0603
pins: 1, 2

## CC0603JRNPO9BN220
designator C?, comment 22pF
22pF ±5% 50V Ceramic Capacitor NP0 0603; Manufacturer: YAGEO; Mfr.Part #: CC0603JRNPO9BN220; Package: 0603; LCSC Part #: C105620; DigiKey Part Number: 311-1062-2-ND; ComponentLink1Description: Link; ComponentLink1URL: https://www.lcsc.com/product-detail/C105620.html?s_z=n_CC0603JRNPO9BN220; ComponentLink2Description: Link 1; ComponentLink2URL: https://www.digikey.com/en/products/detail/yageo/CC0603JRNPO9BN220/302796?s=N4IgTCBcDaIMJwAwDZEGYBSAlAcgBQHkBOAIRzDERAF0BfIA
footprint CAP-0603
footprint CAP-0603-3
pins: 1, 2

## CC0603JRNPO9BN330
designator C?, comment 33pF
33pF ±5% 50V Ceramic Capacitor NP0 0603; Manufacturer: YAGEO; Mfr.Part #: CC0603JRNPO9BN330; Package: 0603; LCSC Part #: C107047; DigiKey Part Number: 311-1064-2-ND; ComponentLink1Description: Link; ComponentLink1URL: https://www.lcsc.com/product-detail/C107047.html; ComponentLink2Description: Link 1; ComponentLink2URL: https://www.digikey.com/en/products/detail/yageo/CC0603JRNPO9BN330/302798?s=N4IgTCBcDaIMJwAwDZEGYBSAlAcgBQHkBOAIRzTURAF0BfIA
footprint CAP-0603
pins: 1, 2

## CC0603JRNPO9BN332
designator C?, comment 3.3nF
3.3nF ±5% 50V Ceramic Capacitor NP0 0603; Manufacturer: YAGEO; Mfr.Part #: CC0603JRNPO9BN332; Package: 0603; LCSC Part #: C107048; DigiKey Part Number: 311-3968-2-ND; ComponentLink1Description: Link; ComponentLink1URL: https://www.lcsc.com/product-detail/C107048.html?s_z=n_3300PF; ComponentLink2Description: Link 1; ComponentLink2URL: https://www.digikey.com/en/products/detail/yageo/CC0603JRNPO9BN332/5883612?s=N4IgTCBcDaIMJwAwDZEGYBSAlAcgBQHkBOAIRzTQgF0BfIA
footprint CAP-0603
pins: 1, 2

## CC0603JRNPO9BN561
designator C?, comment 560pF
560pF ±5% 50V Ceramic Capacitor NP0 0603; Manufacturer: YAGEO; Mfr.Part #: CC0603JRNPO9BN561; Package: 0603; LCSC Part #: C107054; DigiKey Part Number: 311-3359-2-ND; ComponentLink1Description: Link; ComponentLink1URL: https://www.lcsc.com/product-detail/C107054.html?s_z=n_560PF; ComponentLink2Description: Link 1; ComponentLink2URL: https://www.digikey.com/en/products/detail/yageo/CC0603JRNPO9BN561/5883620?s=N4IgTCBcDaIMJwAwDZEGYBSAlAcgBQHkBOAIRwFZkBGEAXQF8g
footprint CAP-0603
pins: 1, 2

## CC0603JRX7R9BB103
designator C?, comment 10nF
10nF ±5% 50V Ceramic Capacitor X7R 0603; Manufacturer: YAGEO; Mfr.Part #: CC0603JRX7R9BB103; Package: 0603; LCSC Part #: C115056; DigiKey Part Number: 311-1778-2-ND; ComponentLink1Description: Link; ComponentLink1URL: https://www.lcsc.com/product-detail/C115056.html?s_z=n_C115056; ComponentLink2Description: Link 1; ComponentLink2URL: https://www.digikey.com/en/products/detail/yageo/CC0603JRX7R9BB103/5195187?s=N4IgTCBcDaIMJwAwDZEGYBSAlAGgdiwE4AhYgRnRAF0BfIA
footprint CAP-0603
footprint CAP-0603-2
pins: 1, 2

## CC0603JRX7R9BB104
designator C?, comment 100nF
50V 100nF X7R ±5% 0603 Multilayer Ceramic Capacitors MLCC - SMD/SMT ROHS; Manufacturer: YAGEO; Mfr.Part #: CC0603JRX7R9BB104; Package: 0603; LCSC Part #: C14664
footprint CAP-0603
pins: 1, 2

## CC0603JRX7R9BB224
designator C?, comment 220nF
220nF ±5% 50V Ceramic Capacitor X7R 0603; Manufacturer: YAGEO; Mfr.Part #: CC0603JRX7R9BB224; Package: 0603; LCSC Part #: C519575; DigiKey Part Number: 13-CC0603JRX7R9BB224TR-ND; ComponentLink1Description: Link; ComponentLink1URL: https://www.lcsc.com/product-detail/C519575.html?s_z=n_CC0603JRX7R9BB224; ComponentLink2Description: Link 1; ComponentLink2URL: https://www.digikey.com/en/products/detail/yageo/CC0603JRX7R9BB224/11490865?s=N4IgTCBcDaIMJwAwDZEGYBSAlAGgdiwE4AhYsMAFhAF0BfIA
footprint CAP-0603
pins: 1, 2

## CC0603KRX5R6BB475
designator C?, comment 4.7uF
10V 4.7uF X5R ±10% 0603 Multilayer Ceramic Capacitors MLCC - SMD/SMT ROHS; Manufacturer: YAGEO; Mfr.Part #: CC0603KRX5R6BB475; Package: 0603; LCSC Part #: C109456
footprint CAP-0603
pins: 1, 2

## CC0603KRX5R7BB225
designator C?, comment 2.2uF
16V 2.2uF X5R ±10% 0603 Multilayer Ceramic Capacitors MLCC - SMD/SMT ROHS; Manufacturer: YAGEO; Mfr.Part #: CC0603KRX5R7BB225; Package: 0603; LCSC Part #: C106853; DigiKey Part Number: 311-1784-2-ND
footprint CAP-0603
pins: 1, 2

## CC0603KRX5R8BB105
designator C?, comment 1uF
1uF ±10% 25V Ceramic Capacitor X5R 0603; Manufacturer: YAGEO; Mfr.Part #: CC0603KRX5R8BB105; Package: 0603; LCSC Part #: C14664; DigiKey Part Number: 311-1445-2-ND; ComponentLink1Description: Link; ComponentLink1URL: https://www.lcsc.com/product-detail/C14664.html?s_z=n_C14664; ComponentLink2Description: Link 1; ComponentLink2URL: https://www.digikey.com/en/products/detail/yageo/CC0603KRX5R8BB105/2833610?s=N4IgTCBcDaIMJwAwDZEGYDSAlAGgViwA4AhYgRkTxAF0BfIA
footprint CAP-0603
pins: 1, 2

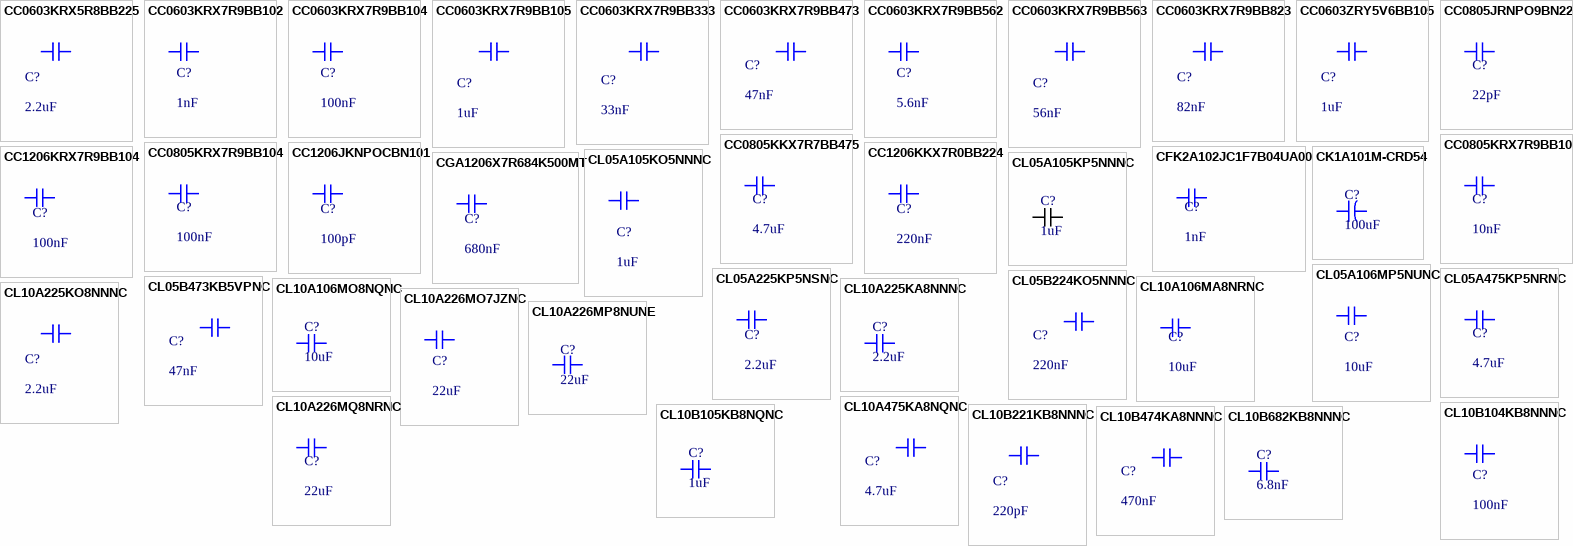
[diagram p2: symbols CC0603KRX5R8BB225 to CL10B682KB8NNNC]

## CC0603KRX5R8BB225
designator C?, comment 2.2uF
CAP CER 2.2uF 25V X5R 0603; Manufacturer: YAGEO; Mfr.Part #: CC0603JRX7R9BB224; Package: 0603; LCSC Part #: C309478; DigiKey Part Number: 13-CC0603JRX7R9BB224TR-ND; ComponentLink1Description: Link; ComponentLink1URL: https://www.lcsc.com/product-detail/C309478.html?s_z=n_C309478; ComponentLink2Description: Link 1; ComponentLink2URL: https://www.digikey.com/en/products/detail/yageo/CC0603JRX7R9BB224/11490865?s=N4IgTCBcDaIMJwAwDZEGYBSAlAGgdiwE4AhYsMAFhAF0BfIA
footprint CAP-0603
pins: 1, 2

## CC0603KRX7R9BB102
designator C?, comment 1nF
1nF ±10% 50V Ceramic Capacitor X7R 0603; Manufacturer: YAGEO; Mfr.Part #: CC0603KRX7R9BB102; Package: 0603; LCSC Part #: C100040; DigiKey Part Number: 311-1080-2-ND; ComponentLink1Description: Link; ComponentLink1URL: https://www.lcsc.com/product-detail/C100040.html?s_z=n_C100040; ComponentLink2Description: Link 1; ComponentLink2URL: https://www.digikey.com/en/products/detail/yageo/CC0603KRX7R9BB102/302814?s=N4IgTCBcDaIMJwAwDZEGYDSAlAGgdiwE4AhYgRkQgF0BfIA
footprint CAP-0603
pins: 1, 2

## CC0603KRX7R9BB104
designator C?, comment 100nF
100nF ±10% 50V Ceramic Capacitor X7R 0603; Manufacturer: YAGEO; Mfr.Part #: CC0603KRX7R9BB104; Package: 0603; LCSC Part #: C14663; DigiKey Part Number: 311-1344-2-ND; ComponentLink1Description: Link; ComponentLink1URL: https://www.lcsc.com/product-detail/C14663.html?s_z=n_C14663; ComponentLink2Description: Link 1; ComponentLink2URL: https://www.digikey.com/en/products/detail/yageo/CC0603KRX7R9BB104/2103082?s=N4IgTCBcDaIMwEYEFoFwCzuWZA5AIiALoC%2BQA
footprint CAP-0603
pins: 1, 2

## CC0603KRX7R9BB105
designator C?, comment 1uF
1uF ±10% 50V Ceramic Capacitor X7R 0603; Manufacturer: YAGEO; Mfr.Part #: CC0603KRX7R9BB105; Package: 0603; LCSC Part #: C559769; DigiKey Part Number: 311-2082-2-ND; ComponentLink1Description: Link; ComponentLink1URL: https://www.lcsc.com/product-detail/C559769.html?s_z=n_CC0603KRX7R9BB105; ComponentLink2Description: Link 1; ComponentLink2URL: https://www.digikey.com/en/products/detail/yageo/CC0603KRX7R9BB105/5883796?s=N4IgTCBcDaIMJwAwDZEGYDSAlAGgdiwE4AhYgRkQFYQBdAXyA
footprint CAP-0603
pins: 1, 2

## CC0603KRX7R9BB333
designator C?, comment 33nF
33nF ±10% 50V Ceramic Capacitor X7R 0603; Manufacturer: YAGEO; Mfr.Part #: CC0603KRX7R9BB333; Package: 0603; LCSC Part #: C106856; DigiKey Part Number: 311-1429-2-ND; ComponentLink1Description: Link; ComponentLink1URL: https://www.lcsc.com/product-detail/C106856.html?s_z=n_CC0603KRX7R9BB333; ComponentLink2Description: Link 1; ComponentLink2URL: https://www.digikey.com/en/products/detail/yageo/CC0603KRX7R9BB333/2833594?s=N4IgTCBcDaIMJwAwDZEGYDSAlAGgdiwE4AhYtckAXQF8g
footprint CAP-0603
pins: 1, 2

## CC0603KRX7R9BB473
designator C?, comment 47nF
47nF ±10% 50V Ceramic Capacitor X7R 0603; Manufacturer: Samsung Electro-Mechanics; Mfr.Part #: CC0603KRX7R9BB473; Package: 0603; LCSC Part #: C107093; DigiKey Part Number: 311-1427-2-ND; ComponentLink1Description: Link; ComponentLink1URL: https://www.lcsc.com/product-detail/C107093.html?s_z=n_47NF; ComponentLink2Description: Link 1; ComponentLink2URL: https://www.digikey.com/en/products/detail/yageo/CC0603KRX7R9BB473/2833592?s=N4IgTCBcDaIMJwAwDZEGYDSAlAGgdiwE4AhYgFjzRAF0BfIA
footprint CAP-0603
pins: 1, 2

## CC0603KRX7R9BB562
designator C?, comment 5.6nF
5.6nF ±10% 50V Ceramic Capacitor X7R 0603; Manufacturer: YAGEO; Mfr.Part #: CC0603KRX7R9BB562; Package: 0603; LCSC Part #: C107095; DigiKey Part Number: 311-1810-2-ND; ComponentLink1Description: Link; ComponentLink1URL: https://www.lcsc.com/product-detail/C107095.html?s_z=n_5600PF; ComponentLink2Description: Link 1; ComponentLink2URL: https://www.digikey.com/en/products/detail/yageo/CC0603KRX7R9BB562/5195217?s=N4IgTCBcDaIMJwAwDZEGYDSAlAGgdiwE4AhYgVmQgF0BfIA
footprint CAP-0603
pins: 1, 2

## CC0603KRX7R9BB563
designator C?, comment 56nF
56nF ±10% 50V Ceramic Capacitor X7R 0603; Manufacturer: YAGEO; Mfr.Part #: CC0603KRX7R9BB563; Package: 0603; LCSC Part #: C282072; DigiKey Part Number: 311-4100-2-ND; ComponentLink1Description: Link; ComponentLink1URL: https://www.lcsc.com/product-detail/C282072.html?s_z=n_56NF; ComponentLink2Description: Link 1; ComponentLink2URL: https://www.digikey.com/en/products/detail/yageo/CC0603KRX7R9BB563/5883809?s=N4IgTCBcDaIMJwAwDZEGYDSAlAGgdiwE4AhYgVmTRAF0BfIA
footprint CAP-0603
pins: 1, 2

## CC0603KRX7R9BB823
designator C?, comment 82nF
82nF ±10% 50V Ceramic Capacitor X7R 0603; Manufacturer: YAGEO; Mfr.Part #: CC0603KRX7R9BB823; Package: 0603; LCSC Part #: C107100; DigiKey Part Number: 311-4102-2-ND; ComponentLink1Description: Link; ComponentLink1URL: https://www.lcsc.com/product-detail/C107100.html?s_z=n_0.082UF; ComponentLink2Description: Link 1; ComponentLink2URL: https://www.digikey.com/en/products/detail/yageo/CC0603KRX7R9BB823/5883812?s=N4IgTCBcDaIMJwAwDZEGYDSAlAGgdiwE4AhYgDjDRAF0BfIA
footprint CAP-0603
pins: 1, 2

## CC0603ZRY5V6BB105
designator C?, comment 1uF
1uF -20%~+80% 10V Ceramic Capacitor Y5V 0603; Manufacturer: YAGEO; Mfr.Part #: CC0603ZRY5V6BB105; Package: 0603; LCSC Part #: C106220; DigiKey Part Number: 311-1357-2-ND; ComponentLink1Description: Link; ComponentLink1URL: https://www.lcsc.com/product-detail/C106220.html?s_z=n_C106220; ComponentLink2Description: Link 1; ComponentLink2URL: https://www.digikey.com/en/products/detail/yageo/CC0603ZRY5V6BB105/2103095?s=N4IgTCBcDaIMJwAwDZEGYBaAlAmgVgDVkAhYgRkTxAF0BfIA
footprint CAP-0603
pins: 1, 2

## CC0805JRNPO9BN220
designator C?, comment 22pF
22pF ±5% 50V Ceramic Capacitor NP0 0805; Manufacturer: YAGEO; Mfr.Part #: CC0805JRNPO9BN220; Package: 0805; LCSC Part #: C105623; DigiKey Part Number: 311-1103-2-ND
footprint CAP-0805
footprint CAP-0805-1
pins: 1, 2

## CC0805KKX7R7BB475
designator C?, comment 4.7uF
4.7uF ±10% 16V Ceramic Capacitor X7R 0805; Manufacturer: YAGEO; Mfr.Part #: CC0805KKX7R7BB475; Package: 0805; LCSC Part #: C277499; DigiKey Part Number: 311-1883-2-ND
footprint CAP-0805
footprint CAP-0805-1
pins: 1, 2

## CC0805KRX7R9BB103
designator C?, comment 10nF
10nF ±10% 50V Ceramic Capacitor X7R 0805; Manufacturer: YAGEO; Mfr.Part #: CC0805KRX7R9BB103; Package: 0805; LCSC Part #: C83170; DigiKey Part Number: 311-1136-2-ND
footprint CAP-0805
footprint CAP-0805-1
pins: 1, 2

## CC0805KRX7R9BB104
designator C?, comment 100nF
50V 100nF X7R ±10% 0805 Multilayer Ceramic Capacitors MLCC - SMD/SMT ROHS; Manufacturer: YAGEO; Mfr.Part #: CC0805KRX7R9BB104; Package: 0805; LCSC Part #: C49678; DigiKey Part Number: 311-1140-2-ND
footprint CAP-0805
footprint CAP-0805-1
pins: 1, 2

## CC1206JKNPOCBN101
designator C?, comment 100pF
100pF ±5% 1kV Ceramic Capacitor NP0 1206; Manufacturer: YAGEO; Mfr.Part #: CC1206JKNPOCBN101; Package: 1206; LCSC Part #: C107173; DigiKey Part Number: 311-1493-2-ND
footprint CAP-1206 - 1
pins: 1, 2

## CC1206KKX7R0BB224
designator C?, comment 220nF
220nF ±10% 100V Ceramic Capacitor X7R 1206; Manufacturer: YAGEO; Mfr.Part #: CC1206KKX7R0BB224; Package: 1206; LCSC Part #: C113892; DigiKey Part Number: 311-3399-2-ND; ComponentLink1Description: Link; ComponentLink1URL: https://www.lcsc.com/product-detail/C113892.html; ComponentLink2Description: Link 1; ComponentLink2URL: https://www.digikey.com/en/products/detail/yageo/CC1206KKX7R0BB224/5884562?s=N4IgTCBcDaIMJwIxgAwDYDSGAaB2ASigEJFhgAsIAugL5A
footprint CAP-1206 - 1
pins: 1, 2

## CC1206KRX7R9BB104
designator C?, comment 100nF
100nF ±10% 50V Ceramic Capacitor X7R 1206; Manufacturer: YAGEO; Mfr.Part #: CC1206KRX7R9BB104; Package: 1206; LCSC Part #: C82601; DigiKey Part Number: 311-1179-2-ND
footprint CAP-1206 - 1
pins: 1, 2

## CFK2A102JC1F7B04UA00
designator C?, comment 1nF
±5% 100V 1nF Through Hole,P=5.08mm Film Capacitors ROHS; Manufacturer: Dersonic; Mfr.Part #: CFK2A102JC1F7B04UA00; Package: Through Hole,P=5.08mm; LCSC Part #: C22439655
footprint Through Hole, P=5.08mm, L=7.2mm, W=2.5mm, H=6.5mm
pins: 1, 2

## CGA1206X7R684K500MT
designator C?, comment 680nF
680nF ±10% 50V Ceramic Capacitor X7R 1206; Manufacturer: HRE; Mfr.Part #: CGA1206X7R684K500MT; Package: 1206; LCSC Part #: C22440595; DigiKey Part Number: NO
footprint CAP-1206 - 1
pins: 1, 2

## CK1A101M-CRD54
designator C?, comment 100uF
100uF ±20% 10V Aluminum Electrolytic Capacitors 2000hrs@105℃; Manufacturer: ROQANG; Mfr.Part #: CK1A101M-CRD54; Package: SMD,D5xL5.4mm; LCSC Part #: C3001231; DigiKey Part Number: NO
footprint SMD,D5xL5.5mm
pins: 1, 2

## CL05A105KO5NNNC
designator C?, comment 1uF
16V 1uF X5R ±10% 0402 Ceramic Capacitors ROHS; Manufacturer: Samsung Electro-Mechanics; Mfr.Part #: CL05A105KO5NNNC; Package: 0402; LCSC Part #: C29266; DigiKey Part Number: 1276-1067-2-ND
footprint CAP-0402
pins: 1, 2

## CL05A105KP5NNNC
designator C?, comment 1uF
10V 1uF X5R ±10% 0402 Multilayer Ceramic Capacitors MLCC - SMD/SMT ROHS; Manufacturer: Samsung Electro-Mechanics; Mfr.Part #: CL05A105KP5NNNC; Package: 0402; LCSC Part #: C14445
footprint CAP-0402
pins: 1, 2

## CL05A106MP5NUNC
designator C?, comment 10uF
10V 10uF X5R ±20% 0402 Multilayer Ceramic Capacitors MLCC - SMD/SMT ROHS; Manufacturer: Samsung Electro-Mechanics; Mfr.Part #: CL05A106MP5NUNC; Package: 0402; LCSC Part #: C315248; DigiKey Part Number: 1276-1450-2-ND
footprint CAP-0402
pins: 1, 2

## CL05A225KP5NSNC
designator C?, comment 2.2uF
10V 2.2uF X5R ±10% 0402 Ceramic Capacitors RoHS; Manufacturer: Samsung Electro-Mechanics; Mfr.Part #: CL05A225KP5NSNC; Package: 0402; LCSC Part #: C107369; DigiKey Part Number: 1276-1108-2-ND
footprint CAP-0402
pins: 1, 2

## CL05A475KP5NRNC
designator C?, comment 4.7uF
10V 4.7uF X5R ±10% 0402 Multilayer Ceramic Capacitors MLCC - SMD/SMT ROHS; Manufacturer: Samsung Electro-Mechanics; Mfr.Part #: CL05A475KP5NRNC; Package: 0402; LCSC Part #: C368809; DigiKey Part Number: 1276-1480-2-ND
footprint CAP-0402
pins: 1, 2

## CL05B224KO5NNNC
designator C?, comment 220nF
220nF ±10% 16V Ceramic Capacitor X7R 0402; Manufacturer: Samsung Electro-Mechanics; Mfr.Part #: CL05B224KO5NNNC; Package: 0402; LCSC Part #: C16772; DigiKey Part Number: 1276-1176-2-ND; ComponentLink1Description: Link; ComponentLink1URL: https://www.lcsc.com/product-detail/C16772.html?s_z=n_220NF; ComponentLink2Description: Link 1; ComponentLink2URL: https://www.digikey.com/en/products/detail/samsung-electro-mechanics/CL05B224KO5NNNC/3886834?s=N4IgTCBcDaIMIBkAMBWAQmMAWA0geRQDli4QBdAXyA
footprint CAP-0402
pins: 1, 2

## CL05B473KB5VPNC
designator C?, comment 47nF
47nF ±10% 50V Ceramic Capacitor X7R 0402; Manufacturer: muRata; Mfr.Part #: CL05B473KB5VPNC; Package: 0402; LCSC Part #: C307339; DigiKey Part Number: 1276-CL05B473KB5VPNCTR-ND; ComponentLink1Description: Link; ComponentLink1URL: https://www.lcsc.com/product-detail/C307339.html; ComponentLink2Description: Link 1; ComponentLink2URL: https://www.digikey.com/en/products/detail/samsung-electro-mechanics/CL05B473KB5VPNC/11487772?s=N4IgTCBcDaIMIBkAMBWAQgFgOwGYDSaKAagAoBycIAugL5A
footprint CAP-0402
pins: 1, 2

## CL10A106MA8NRNC
designator C?, comment 10uF
10uF ±20% 25V Ceramic Capacitor X5R 0603; Manufacturer: Samsung Electro-Mechanics; Mfr.Part #: CL10A106MA8NRNC; Package: 0603; LCSC Part #: C96446; DigiKey Part Number: 1276-1869-2-ND; ComponentLink1Description: Link; ComponentLink1URL: https://www.lcsc.com/product-detail/C96446.html?s_z=n_CL10A106MA8NRNC; ComponentLink2Description: Link 1; ComponentLink2URL: https://www.digikey.com/en/products/detail/samsung-electro-mechanics/CL10A106MA8NRNC/3887527?s=N4IgTCBcDaIMIBkCMAGAgqgbAWTQDgDkAlAuEAXQF8g
footprint CAP-0603
pins: 1, 2

## CL10A106MO8NQNC
designator C?, comment 10uF
16V 10uF X5R ±20% 0603 Multilayer Ceramic Capacitors MLCC - SMD/SMT ROHS; Manufacturer: Samsung Electro-Mechanics; Mfr.Part #: CL10A106MO8NQNC; Package: 0603; LCSC Part #: C92487; DigiKey Part Number: 1276-1870-2-ND; ComponentLink1Description: Link; ComponentLink1URL: https://www.lcsc.com/product-detail/C92487.html?s_z=n_C92487; ComponentLink2Description: Link 1; ComponentLink2URL: https://www.digikey.com/en/products/detail/samsung-electro-mechanics/CL10A106MO8NQNC/3887528?s=N4IgTCBcDaIMIBkCMAGAgqgbAWQPIA4A5ARULhAF0BfIA
footprint CAP-0603
pins: 1, 2

## CL10A225KA8NNNC
designator C?, comment 2.2uF
2.2uF ±10% 25V Ceramic Capacitor X5R 0603; Manufacturer: Samsung Electro-Mechanics; Mfr.Part #: CL10A225KA8NNNC; Package: 0603; LCSC Part #: C57895; DigiKey Part Number: 1276-1879-2-ND; ComponentLink1Description: Link; ComponentLink1URL: https://www.lcsc.com/product-detail/C57895.html?s_z=n_CL10A225KA8NNNC; ComponentLink2Description: Link 1; ComponentLink2URL: https://www.digikey.com/en/products/detail/samsung-electro-mechanics/CL10A225KA8NNNC/3887537?s=N4IgTCBcDaIMIBkCMAGAgmMBWA0mgHAHLFwgC6AvkA
footprint CAP-0603
pins: 1, 2

## CL10A225KO8NNNC
designator C?, comment 2.2uF
2.2uF ±10% 16V Ceramic Capacitor X5R 0603; Manufacturer: Samsung Electro-Mechanics; Mfr.Part #: CL10A225KO8NNNC; Package: 0603; LCSC Part #: C23630; DigiKey Part Number: 1276-1040-2-ND; ComponentLink1Description: Link; ComponentLink1URL: https://www.lcsc.com/product-detail/C23630.html?s_z=n_CL10A225KO8NNNC; ComponentLink2Description: Link 1; ComponentLink2URL: https://www.digikey.com/en/products/detail/samsung-electro-mechanics/CL10A225KO8NNNC/3886698?s=N4IgTCBcDaIMIBkCMAGAgmMBWA0geQA4A5EuEAXQF8g
footprint CAP-0603
pins: 1, 2

## CL10A226MO7JZNC
designator C?, comment 22uF
16V 22uF X5R ±20% 0603 Ceramic Capacitors ROHS; Manufacturer: Samsung Electro-Mechanics; Mfr.Part #: CL10A226MO7JZNC; Package: 0603; LCSC Part #: C2762594; DigiKey Part Number: 1276-7076-2-ND
footprint CAP-0603
pins: 1, 2

## CL10A226MP8NUNE
designator C?, comment 22uF
10V 22uF X5R ±20% 0603 Multilayer Ceramic Capacitors MLCC - SMD/SMT ROHS; Manufacturer: Samsung Electro-Mechanics; Mfr.Part #: CL10A226MP8NUNE; Package: 0603; LCSC Part #: C86295; DigiKey Part Number: 1276-1274-2-ND
footprint CAP-0603
pins: 1, 2

## CL10A226MQ8NRNC
designator C?, comment 22uF
6.3V 22uF X5R ±20% 0603 Multilayer Ceramic Capacitors MLCC - SMD/SMT ROHS; Manufacturer: Samsung Electro-Mechanics; Mfr.Part #: CL10A226MQ8NRNC; Package: 0603; DigiKey Part Number: 1276-1193-2-ND; LCSC Part #: C59461
footprint CAP-0603
pins: 1, 2

## CL10A475KA8NQNC
designator C?, comment 4.7uF
4.7uF ±10% 25V Ceramic Capacitor X5R 0603; Manufacturer: Samsung Electro-Mechanics; Mfr.Part #: CL10A475KA8NQNC; Package: 0603; LCSC Part #: C69335; DigiKey Part Number: 1276-1900-2-ND; ComponentLink1Description: Link; ComponentLink1URL: https://www.lcsc.com/product-detail/C69335.html; ComponentLink2Description: Link 1; ComponentLink2URL: https://www.digikey.com/en/products/detail/samsung-electro-mechanics/CL10A475KA8NQNC/3887558?s=N4IgTCBcDaIMIBkCMAGAggFgOwFYDSaAHAHICKxcIAugL5A
footprint CAP-0603
pins: 1, 2

## CL10B104KB8NNNC
designator C?, comment 100nF
100nF ±10% 50V Ceramic Capacitor X7R 0603; Manufacturer: Samsung Electro-Mechanics; Mfr.Part #: CL10B104KB8NNNC; Package: 0603; LCSC Part #: C1591; DigiKey Part Number: 1276-1000-2-ND; ComponentLink1Description: Link; ComponentLink1URL: https://www.lcsc.com/product-detail/C1591.html?s_z=n_CL10B104KB8NNC; ComponentLink2Description: Link 1; ComponentLink2URL: https://www.digikey.com/en/products/detail/samsung-electro-mechanics/CL10B104KB8NNNC/3886658?s=N4IgTCBcDaIMIBkCMAGAQqgLAaTQDgDki4QBdAXyA
footprint CAP-0603
footprint CAP-0603-3
pins: 1, 2

## CL10B105KB8NQNC
designator C?, comment 1uF
1uF ±10% 50V Ceramic Capacitor X7R 0603; Manufacturer: Samsung Electro-Mechanics; Mfr.Part #: CL10B105KB8NQNC; Package: 0603; LCSC Part #: C5199872; DigiKey Part Number: NO; ComponentLink1Description: Link; ComponentLink1URL: https://www.lcsc.com/product-detail/C5199872.html; ComponentLink2Description: Link 1
footprint CAP-0603
pins: 1, 2

## CL10B221KB8NNNC
designator C?, comment 220pF
220pF ±10% 50V Ceramic Capacitor X7R 0603; Manufacturer: Samsung Electro-Mechanics; Mfr.Part #: CL10B221KB8NNNC; Package: 0603; LCSC Part #: C1603; DigiKey Part Number: 1276-1145-2-ND; ComponentLink1Description: Link; ComponentLink1URL: https://www.lcsc.com/product-detail/C1603.html?s_z=n_220PF; ComponentLink2Description: Link 1; ComponentLink2URL: https://www.digikey.com/en/products/detail/samsung-electro-mechanics/CL10B221KB8NNNC/3886803?s=N4IgTCBcDaIMIBkCMAGAQmMSDSaAcAckXCALoC%2BQA
footprint CAP-0603
pins: 1, 2

## CL10B474KA8NNNC
designator C?, comment 470nF
470nF ±10% 25V Ceramic Capacitor X7R 0603; Manufacturer: Samsung Electro-Mechanics; Mfr.Part #: CL10B474KA8NNNC; Package: 0603; LCSC Part #: C1623; DigiKey Part Number: 1276-2083-2-ND; ComponentLink1Description: Link; ComponentLink1URL: https://www.lcsc.com/product-detail/C1623.html?s_z=n_470NF; ComponentLink2Description: Link 1; ComponentLink2URL: https://www.digikey.com/en/products/detail/samsung-electro-mechanics/CL10B474KA8NNNC/3887741?s=N4IgTCBcDaIMIBkCMAGAQgFgOwYNIEEAOAOVLhAF0BfIA
footprint CAP-0603
pins: 1, 2